# Altium schematic symbol library LED.SchLib: 2 symbols
Pins are listed as number, name and electrical type; pins without a type are passive.

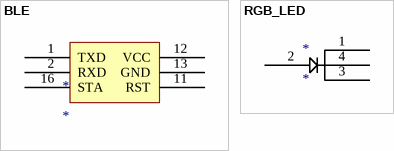
[diagram p0: symbols BLE to RGB_LED]

## BLE
designator *
footprint BLE
pins: 1 TXD, 2 RXD, 11 RST, 12 VCC, 13 GND, 16 STA

## RGB_LED
designator *
footprint LED_RGB
pins: 1, 2, 3, 4